# Altium schematic symbol library TPD2E001DZDR.SchLib: 2 symbols
Pins are listed as number, name and electrical type; pins without a type are passive.

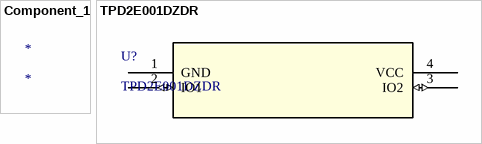
[diagram p0: symbols Component_1 to TPD2E001DZDR]

## Component_1
designator *

## TPD2E001DZDR
designator U?
No Description Available; Mfr_Name: Texas Instruments; Copyright: Copyright (C) 2022 Ultra Librarian. All rights reserved.; Manufacturer_Part_Number: TPD2E001DZDR; RefDes: RefDes; Type: DEV
footprint DZD4
pins: 1 GND (power), 2 IO1 (io), 3 IO2 (io), 4 VCC (power)